# Altium schematic symbol library dongxf_Schlib.SchLib: 300 symbols (part 6 of 6)
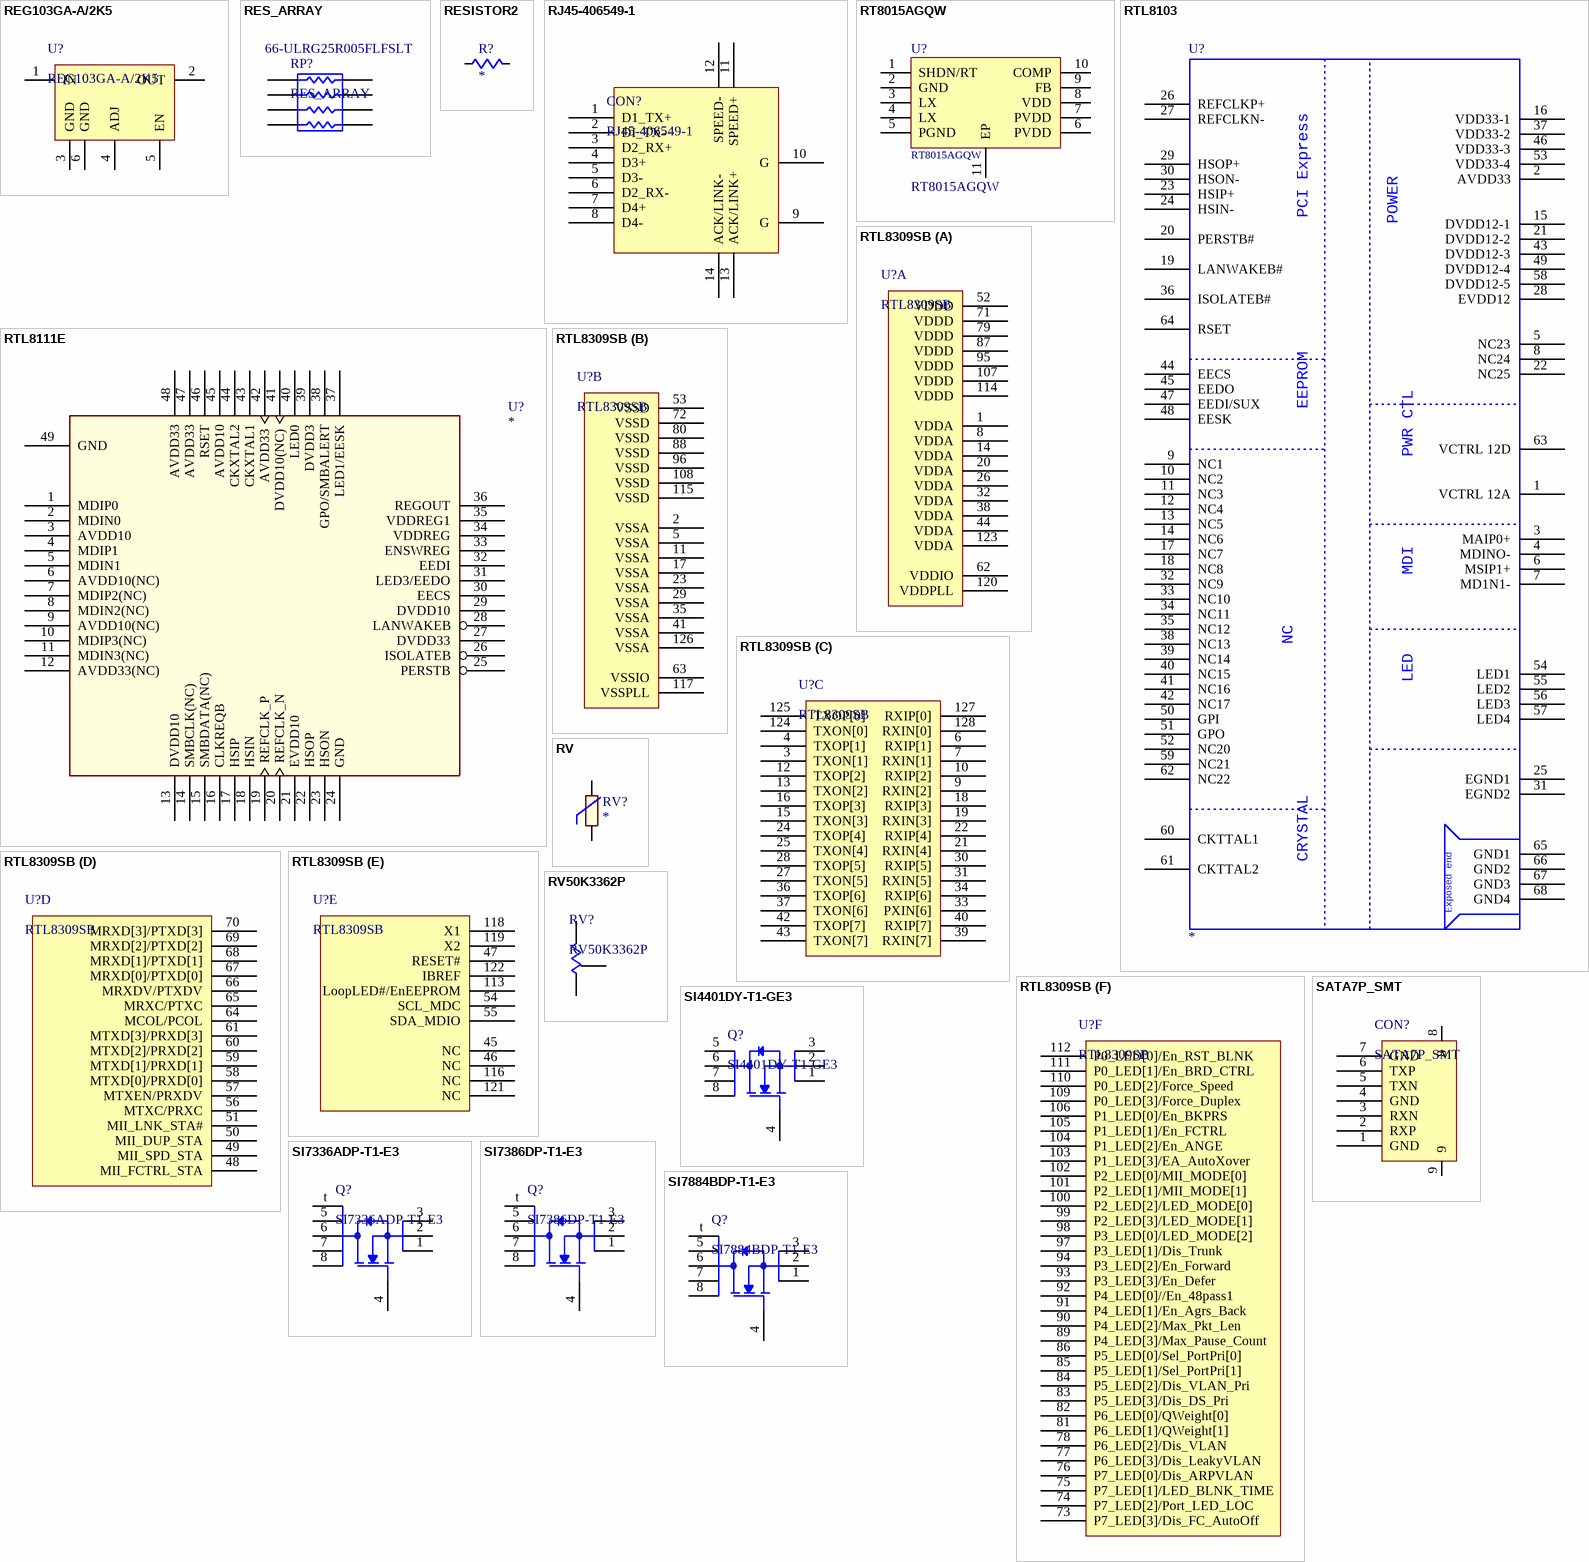
[diagram p19: symbols REG103GA-A/2K5 to SI7884BDP-T1-E3]

## RES_ARRAY
designator RP?  Supplier Part Number 1: 66-ULRG25R005FLFSLT
Manufacturer: IRC / TT electronics; Manufacturer Part Number: ULRG252512R005FLFSLT; Power Rating: 2.5 W; Resistance: 5 mOhms; Tolerance: 1 %; Case Height: 0.6 mm; Case Length: 6.3 mm; Case Width: 3.2 mm; Supplier 1: Mouser; RoHS: RoHS Compliant; Category: Current Sense Resistors - SMD; Stock 1: 3880; Pricing 1: 1=0.743, 25=0.589, 50=0.528, 100=0.504, 500=0.478, 1000=0.466, 2000=0.454, 4000=0.443 (AUD); Operating Temperature Range: - 55 C to + 170 C; Package / Case: 2512 (6432 metric); Packaging: Reel; Series: ULR; Termination Style: SMD/SMT; Type: Metal Element Current Sense Resistor; Brand: IRC / TT electronics; Case Code - in: 2512; Case Code - mm: 6432; Product Category: Current Sense Chip Resistors; Standard Pack Qty: 4000; RoHS - Mouser: Y; Minimum Order Quantity: 1; Reeling: True; ComponentLink1URL: http://irctt.com/file.aspx?product_id=3&file_type=datasheet; ComponentLink1Description: http://irctt.com/file.aspx?product_id=3&file_type=datasheet
pins: 1, 2, 3, 4, 5, 6, 7, 8

## RESISTOR2
designator R?
footprint 0603R-1
footprint CAPC1608X90N
pins: 1, 2

## RJ45-406549-1
designator CON?
Thick Film Resistors - SMD 0 Ohm 5% 1/5W 50V ZERO OHM JUMPER; Manufacturer: Risym; Current Rating: 1.5 A; Gender: Female; Mounting Angle: Right; Number of Positions: 8; Shielding: Shielded; Number of Ports: 1; Performance Category: Cat 5; USOC Codes: RJ45; Supplier 1: taobao.com; Stock 1: 0; Power Rating: -; Temperature Coefficient: -; Tolerance: -; Voltage Rating: -; Brand: Risym; RoHS - Mouser: Y; Reeling: True; ComponentLink1URL: http://detail.tmall.com/item.htm?spm=a230r.1.14.1.2LhdNn&id=14475248606&ad_id=&am_id=&cm_id=140105335569ed55e27b&pm_id=#; My_Description: RJ45-406549-1; Supplier 2: Mouser; Stock 2: 4521; Pricing 2: 1=3.75, 25=3.42, 50=3.13, 100=2.96, 200=2.70, 500=2.40 (AUD); Color: Black; Contact Plating: Gold; Housing Material: Thermoplastic; Termination Style: Through Hole; Contact Material: Phosphor Bronze; Flammability Rating: UL 94 V-0; Standard Pack Qty: 441; ComponentLink2URL: http://www.te.com/catalog/pn/en/2-406549-1?RQPN=2-406549-1; ComponentLink2Description: http://www.te.com/catalog/pn/en/2-406549-1?RQPN=2-406549-1; Supplier Part Number 2: 571-2-406549-1
footprint 406549-1
pins: 1 D1_TX+, 2 DI_TX-, 3 D2_RX+, 4 D3+, 5 D3-, 6 D2_RX-, 7 D4+, 8 D4-, 9 G, 10 G, 11 SPEED+, 12 SPEED-, 13 ACK/LINK+, 14 ACK/LINK-

## RT8015AGQW
designator U?
IC REG BUCK SYNC ADJ 3A 10WDFN; Manufacturer: Richtek USA Inc; Voltage - Output: 0.8 V ~ 5 V; Frequency - Switching: 300kHz ~ 2MHz; Synchronous Rectifier: Yes; PWM Type: Current Mode; Number of Outputs: 1; Voltage - Input: 2.6 V ~ 5.5 V; Output Type: Adjustable; Supplier 1: Digi-Key; Supplier Part Number 1: 1028-1029-1-ND; Packaging: Cut Tape (CT); RoHS: RoHS Compliant; Category: Integrated Circuits (ICs); Mounting Type: Surface Mount; Package / Case: 10-WFDFN Exposed Pad; Current - Output: 3A; Supplier Device Package: 10-WDFN (3x3); Type: Step-Down (Buck); Operating Temperature: -40°C ~ 85°C; My_Descript: RT8015AGQW; Manufacturer Part Number: RT8015AGQW
footprint SON50P300X300X80-11N
pins: 1 SHDN/RT, 2 GND, 3 LX, 4 LX, 5 PGND, 6 PVDD, 7 PVDD, 8 VDD, 9 FB, 10 COMP, 11 EP

## RTL8103
designator U?
footprint QFN64-0_5-9X9X1MM
pins: 1 VCTRL 12A, 2 AVDD33, 3 MAIP0+, 4 MDINO-, 5 NC23, 6 MSIP1+, 7 MD1N1-, 8 NC24, 9 NC1, 10 NC2, 11 NC3, 12 NC4, 13 NC5, 14 NC6, 15 DVDD12-1, 16 VDD33-1, 17 NC7, 18 NC8, 19 LANWAKEB#, 20 PERSTB#, 21 DVDD12-2, 22 NC25, 23 HSIP+, 24 HSIN-, 25 EGND1, 26 REFCLKP+, 27 REFCLKN-, 28 EVDD12, 29 HSOP+, 30 HSON-, 31 EGND2, 32 NC9, 33 NC10, 34 NC11, 35 NC12, 36 ISOLATEB#, 37 VDD33-2, 38 NC13, 39 NC14, 40 NC15, 41 NC16, 42 NC17, 43 DVDD12-3, 44 EECS, 45 EEDO, 46 VDD33-3, 47 EEDI/SUX, 48 EESK, 49 DVDD12-4, 50 GPI, 51 GPO, 52 NC20, 53 VDD33-4, 54 LED1, 55 LED2, 56 LED3, 57 LED4, 58 DVDD12-5, 59 NC21, 60 CKTTAL1, 61 CKTTAL2, 62 NC22, 63 VCTRL 12D, 64 RSET, 65 GND1, 66 GND2, 67 GND3, 68 GND4
text: PCI Express; POWER; EEPROM; PWR CTL; MDI; NC; LED; CRYSTAL; Exposed end

## RTL8111E
designator U?
footprint qfn48p0_4d_tg
pins: 1 MDIP0, 2 MDIN0, 3 AVDD10, 4 MDIP1, 5 MDIN1, 6 AVDD10(NC), 7 MDIP2(NC), 8 MDIN2(NC), 9 AVDD10(NC), 10 MDIP3(NC), 11 MDIN3(NC), 12 AVDD33(NC), 13 DVDD10, 14 SMBCLK(NC), 15 SMBDATA(NC), 16 CLKREQB, 17 HSIP, 18 HSIN, 19 REFCLK_P, 20 REFCLK_N, 21 EVDD10, 22 HSOP, 23 HSON, 24 GND, 25 PERSTB, 26 ISOLATEB, 27 DVDD33, 28 LANWAKEB, 29 DVDD10, 30 EECS, 31 LED3/EEDO, 32 EEDI, 33 ENSWREG, 34 VDDREG, 35 VDDREG1, 36 REGOUT, 37 LED1/EESK (hiz), 38 GPO/SMBALERT, 39 DVDD3, 40 LED0, 41 DVDD10(NC), 42 AVDD33, 43 CKXTAL1, 44 CKXTAL2, 45 AVDD10, 46 RSET, 47 AVDD33, 48 AVDD33, 49 GND

## RTL8309SB
designator U?
My_Descript: RTL8309SB
footprint PQFP128
part A pins: 1 VDDA, 8 VDDA, 14 VDDA, 20 VDDA, 26 VDDA, 32 VDDA, 38 VDDA, 44 VDDA, 52 VDDD, 62 VDDIO, 71 VDDD, 79 VDDD, 87 VDDD, 95 VDDD, 107 VDDD, 114 VDDD, 120 VDDPLL, 123 VDDA
part B pins: 2 VSSA, 5 VSSA, 11 VSSA, 17 VSSA, 23 VSSA, 29 VSSA, 35 VSSA, 41 VSSA, 53 VSSD, 63 VSSIO, 72 VSSD, 80 VSSD, 88 VSSD, 96 VSSD, 108 VSSD, 115 VSSD, 117 VSSPLL, 126 VSSA
part C pins: 3 TXON[1], 4 TXOP[1], 6 RXIP[1], 7 RXIN[1], 9 RXIN[2], 10 RXIP[2], 12 TXOP[2], 13 TXON[2], 15 TXON[3], 16 TXOP[3], 18 RXIP[3], 19 RXIN[3], 21 RXIN[4], 22 RXIP[4], 24 TXOP[4], 25 TXON[4], 27 TXON[5], 28 TXOP[5], 30 RXIP[5], 31 RXIN[5], 33 PXIN[6], 34 RXIP[6], 36 TXOP[6], 37 TXON[6], 39 RXIN[7], 40 RXIP[7], 42 TXOP[7], 43 TXON[7], 124 TXON[0], 125 TXOP[0], 127 RXIP[0], 128 RXIN[0]
part D pins: 48 MII_FCTRL_STA, 49 MII_SPD_STA, 50 MII_DUP_STA, 51 MII_LNK_STA#, 56 MTXC/PRXC, 57 MTXEN/PRXDV, 58 MTXD[0]/PRXD[0], 59 MTXD[1]/PRXD[1], 60 MTXD[2]/PRXD[2], 61 MTXD[3]/PRXD[3], 64 MCOL/PCOL, 65 MRXC/PTXC, 66 MRXDV/PTXDV, 67 MRXD[0]/PTXD[0], 68 MRXD[1]/PTXD[1], 69 MRXD[2]/PTXD[2], 70 MRXD[3]/PTXD[3]
part E pins: 45 NC, 46 NC, 47 RESET#, 54 SCL_MDC, 55 SDA_MDIO, 113 LoopLED#/EnEEPROM, 116 NC, 118 X1, 119 X2, 121 NC, 122 IBREF
part F pins: 73 P7_LED[3]/Dis_FC_AutoOff, 74 P7_LED[2]/Port_LED_LOC, 75 P7_LED[1]/LED_BLNK_TIME, 76 P7_LED[0]/Dis_ARPVLAN, 77 P6_LED[3]/Dis_LeakyVLAN, 78 P6_LED[2]/Dis_VLAN, 81 P6_LED[1]/QWeight[1], 82 P6_LED[0]/QWeight[0], 83 P5_LED[3]/Dis_DS_Pri, 84 P5_LED[2]/Dis_VLAN_Pri, 85 P5_LED[1]/Sel_PortPri[1], 86 P5_LED[0]/Sel_PortPri[0], 89 P4_LED[3]/Max_Pause_Count, 90 P4_LED[2]/Max_Pkt_Len, 91 P4_LED[1]/En_Agrs_Back, 92 P4_LED[0]//En_48pass1, 93 P3_LED[3]/En_Defer, 94 P3_LED[2]/En_Forward, 97 P3_LED[1]/Dis_Trunk, 98 P3_LED[0]/LED_MODE[2], 99 P2_LED[3]/LED_MODE[1], 100 P2_LED[2]/LED_MODE[0], 101 P2_LED[1]/MII_MODE[1], 102 P2_LED[0]/MII_MODE[0], 103 P1_LED[3]/EA_AutoXover, 104 P1_LED[2]/En_ANGE, 105 P1_LED[1]/En_FCTRL, 106 P1_LED[0]/En_BKPRS, 109 P0_LED[3]/Force_Duplex, 110 P0_LED[2]/Force_Speed, 111 P0_LED[1]/En_BRD_CTRL, 112 P0_LED[0]/En_RST_BLNK

## RV
designator RV?
footprint r0603_tg
pins: 1, 2

## RV50K3362P
designator RV?
Trimmer Resistors - Through Hole 1/4"SQ 50KOHMS 10% 0.5WATTS; Manufacturer: Bourns; Manufacturer Part Number: 3362P-1-503LF; Power Rating: 500 mW (1/2 W); Temperature Coefficient: 100 PPM / C; Voltage Rating: 300 V; Adjustment: Top Crossed; Element Type: Cermet; Supplier 1: Mouser; RoHS: RoHS Compliant By Exemption; Category: Trimmer Resistors - Through Hole; Stock 1: 2342; Pricing 1: 1=1.34, 10=1.05, 50=1.01, 100=0.914, 500=0.778, 1000=0.718, 2000=0.622, 5000=0.591, 10000=0.494 (AUD); Operating Temperature Range: - 55 C to + 125 C; Packaging: Tube; Product: Trimmer Resistors - Single Turn; Resistance: 50 kOhms; Series: 3362; Termination Style: Radial; Tolerance: 10 %; Brand: Bourns; Product Category: Single-Turn Trimmer Potentiometers; Product Type: Single Turn; Standard Pack Qty: 50; Taper: Linear; Tradename: Trimpot; RoHS - Mouser: E; Minimum Order Quantity: 1; Reeling: False; ComponentLink1URL: http://www.bourns.com/data/global/pdfs/3362.pdf; ComponentLink1Description: http://www.bourns.com/data/global/pdfs/3362.pdf; My_Descript: RV50K3362P; Supplier Part Number 1: 652-3362P-1-503LF
footprint 3362P_RV
pins: 1, 2, 3

## SATA7P_SMT
designator CON?
footprint SATA7P_SMT
pins: 1 GND, 2 RXP, 3 RXN, 4 GND, 5 TXN, 6 TXP, 7 GND, 8, 9

## SI4401DY-T1-GE3
designator Q?
MOSFET 40V 10.5A 3.0W 15.5mohm @ 10V; Manufacturer: Vishay / Siliconix; Configuration: Single; Transistor Polarity: P-Channel; Id - Continuous Drain Current: 8.7 A; Pd - Power Dissipation: 1.5 W; Rds On - Drain-Source Resistance: 15.5 mOhms; Vds - Drain-Source Breakdown Voltage: - 40 V; Vgs - Gate-Source Breakdown Voltage: 20 V; Product Status: Not Recommended for New Designs; Supplier 1: Mouser; Manufacturer Part Number: SI4401DY-T1-GE3; RoHS: RoHS Compliant By Exemption; Category: MOSFET; Stock 1: 1023; Pricing 1: 1=3.29, 10=2.54, 50=2.43, 100=2.30, 500=1.78, 2500=1.43, 5000=1.40, 7500=1.38, 10000=1.36 (AUD); Package / Case: SO-8; Packaging: Reel; Brand: Vishay / Siliconix; Mounting Style: SMD/SMT; Maximum Operating Temperature: + 150 C; Minimum Operating Temperature: - 55 C; Product Category: P-Channel MOSFETs; Standard Pack Qty: 2500; RoHS - Mouser: E; Minimum Order Quantity: 1; Reeling: True; ComponentLink1URL: http://www.mouser.com/ds/2/427/71226-240099.pdf; ComponentLink1Description: http://www.mouser.com/ds/2/427/71226-240099.pdf; Supplier Part Number 1: 781-SI4401DY-GE3; My_Descript: SI4401DY-T1-GE3
footprint SOIC8
pins: 1, 2, 3, 4, 5, 6, 7, 8

## SI7336ADP-T1-E3
designator Q?
MOSFET 30V 30A 5.4W 3.0mohm @10V; Manufacturer: Vishay / Siliconix; Configuration: Single; Transistor Polarity: N-Channel; Channel Mode: Enhancement; Fall Time: 32 ns; Rds On - Drain-Source Resistance: 3 mOhms; Rise Time: 16 ns; Typical Turn-Off Delay Time: 90 ns; Vgs - Gate-Source Breakdown Voltage: 20 V; Supplier 1: Mouser; Manufacturer Part Number: SI7336ADP-T1-E3; RoHS: RoHS Compliant By Exemption; Category: MOSFET; Stock 1: 1486; Pricing 1: 1=2.21, 10=1.74, 100=1.57, 250=1.36, 500=1.22, 1000=1.13, 3000=0.990, 6000=0.969, 12000=0.933 (AUD); Package / Case: PowerPAK SO-8; Packaging: Reel; Brand: Vishay / Siliconix; Mounting Style: SMD/SMT; Id - Continuous Drain Current: 30 A; Maximum Operating Temperature: + 150 C; Minimum Operating Temperature: - 55 C; Pd - Power Dissipation: 5.4 W; Product Category: N-Channel MOSFETs; Standard Pack Qty: 3000; Vds - Drain-Source Breakdown Voltage: 30 V; RoHS - Mouser: E; Minimum Order Quantity: 1; Reeling: True; ComponentLink1URL: http://www.vishay.com/doc?73152; ComponentLink1Description: http://www.vishay.com/doc?73152; My_Descript: SI7336ADP-T1-E3; Supplier Part Number 1: 781-SI7336ADP-T1-E3
footprint POWERPAK_SO_8
pins: 1, 2, 3, 4, 5, 6, 7, 8, t

## SI7386DP-T1-E3
designator Q?
MOSFET 30 Volt 19 Amp 5W; Manufacturer: Vishay / Siliconix; Configuration: Single; Forward Transconductance - Min: 50 S; Transistor Polarity: N-Channel; Channel Mode: Enhancement; Fall Time: 10 ns; Id - Continuous Drain Current: 19 A; Rds On - Drain-Source Resistance: 7 mOhms; Rise Time: 9 ns; Typical Turn-Off Delay Time: 35 ns; Vds - Drain-Source Breakdown Voltage: 30 V; Vgs - Gate-Source Breakdown Voltage: 20 V; Supplier 1: Mouser; Manufacturer Part Number: SI7386DP-T1-E3; RoHS: RoHS Compliant By Exemption; Category: MOSFET; Stock 1: 12201; Pricing 1: 1=1.78, 10=1.40, 100=1.26, 250=1.09, 500=0.986, 1000=0.770, 3000=0.770 (AUD); Package / Case: PowerPAK SO-8; Packaging: Reel; Brand: Vishay / Siliconix; Mounting Style: SMD/SMT; Maximum Operating Temperature: + 150 C; Minimum Operating Temperature: - 55 C; Pd - Power Dissipation: 5 W; Product Category: N-Channel MOSFETs; Standard Pack Qty: 3000; RoHS - Mouser: E; Minimum Order Quantity: 1; Reeling: True; ComponentLink1URL: http://www.vishay.com/doc?73108; ComponentLink1Description: http://www.vishay.com/doc?73108; Supplier Part Number 1: 781-SI7386DP-T1-E3; My_Descript: SI7386DP-T1-E3
footprint POWERPAK_SO_8
pins: 1, 2, 3, 4, 5, 6, 7, 8, t

## SI7884BDP-T1-E3
designator Q?
MOSFET 40V 58A 46W; Manufacturer: Vishay / Siliconix; Configuration: Single; Transistor Polarity: N-Channel; Channel Mode: Enhancement; Fall Time: 11 ns; Id - Continuous Drain Current: 18.5 A; Pd - Power Dissipation: 4.6 W; Rds On - Drain-Source Resistance: 7.5 mOhms; Rise Time: 14 ns; Typical Turn-Off Delay Time: 38 ns; Vgs - Gate-Source Breakdown Voltage: 20 V; Product Status: Obsolete; Supplier 1: Mouser; Manufacturer Part Number: SI7884BDP-T1-E3; RoHS: RoHS Compliant; Category: MOSFET; Stock 1: 0; Package / Case: PowerPAK SO-8; Packaging: Reel; Brand: Vishay / Siliconix; Mounting Style: SMD/SMT; Maximum Operating Temperature: + 150 C; Minimum Operating Temperature: - 55 C; Product Category: N-Channel MOSFETs; Standard Pack Qty: 3000; Vds - Drain-Source Breakdown Voltage: 40 V; RoHS - Mouser: E; Minimum Order Quantity: 1; Reeling: True; ComponentLink1URL: http://www.vishay.com/doc?68395; ComponentLink1Description: http://www.vishay.com/doc?68395; My_Descript: SI7884BDP-T1-E3; Supplier Part Number 1: 781-SI7884BDP-E3
footprint POWERPAK_SO_8
pins: 1, 2, 3, 4, 5, 6, 7, 8, t

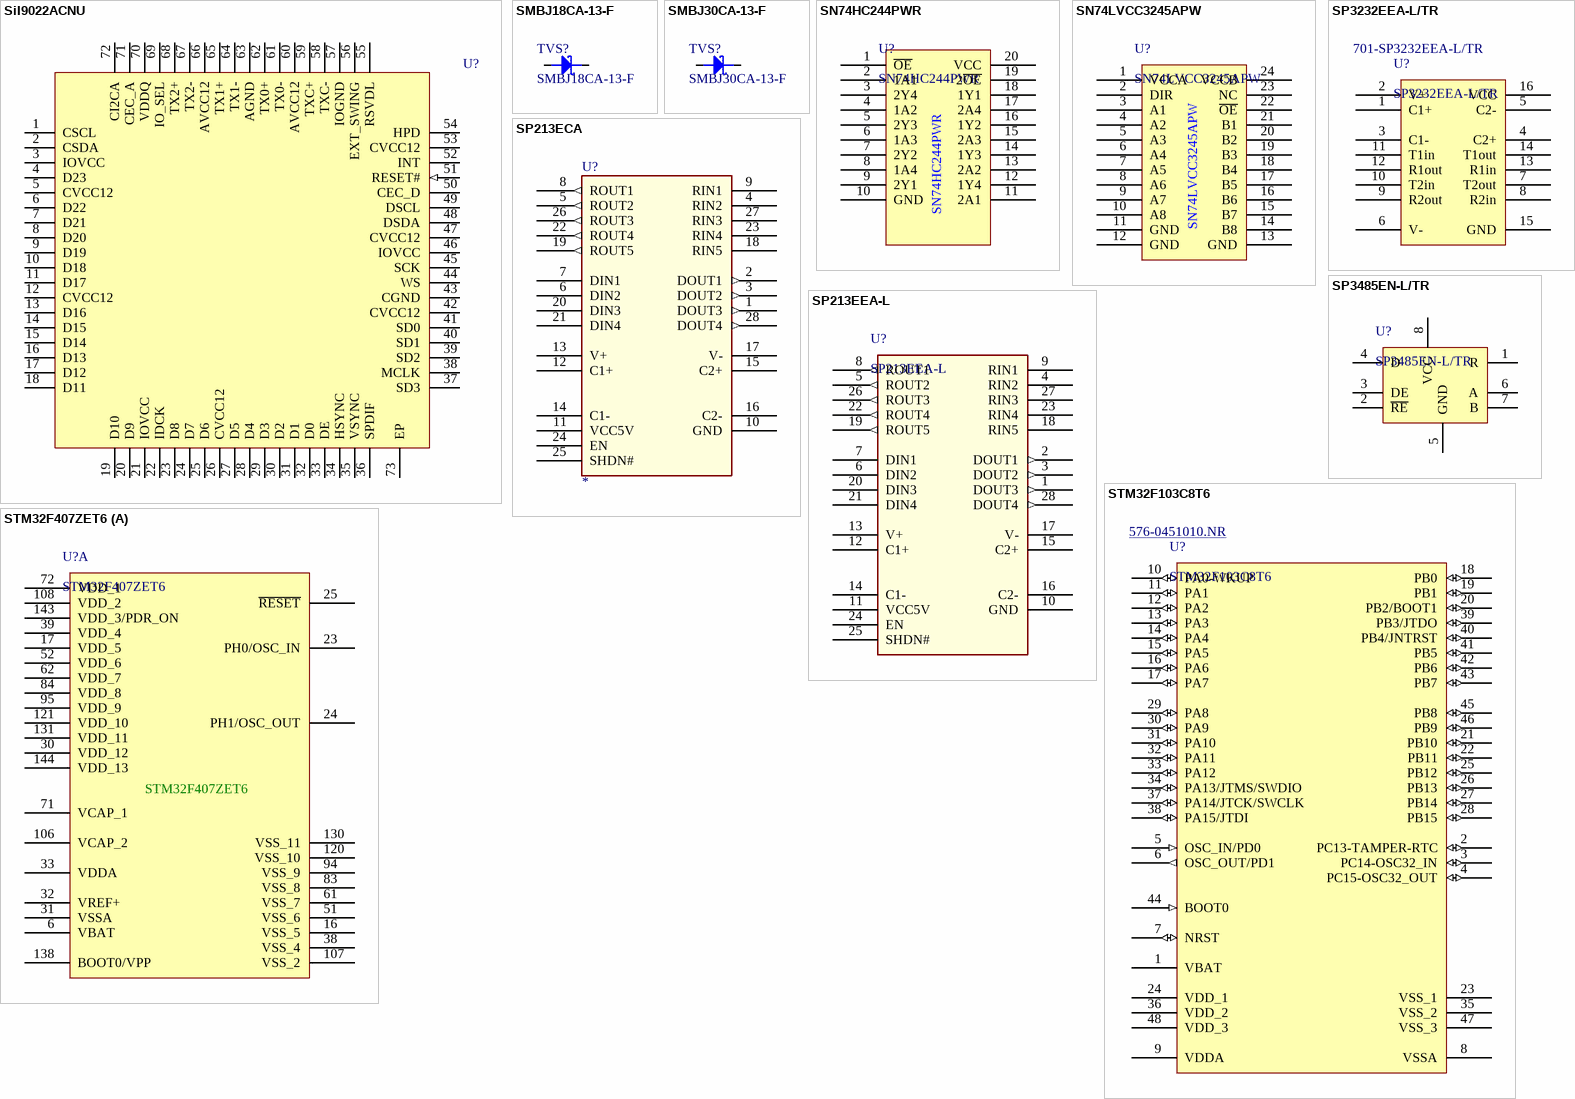
[diagram p11: symbols SiI9022ACNU to STM32F407ZET6]

## SiI9022ACNU
designator U?  (value not drawn)
HDMI Transmitter chip; Manufacturer: Silicon Image; Manufacturer Part Number: Sil9022ACNU; Taobao Price: 7.2; Supplier 1: www.taobao.com; Supplier Part Number 1: SiI9022ACNU; Package / Case: QFN72; Mounting Style: SMD/SMT; RoHS: RoHS Compliant; Category: Video ICs; RoHS - Mouser: Y; Taobao Link: http://item.taobao.com/item.htm?spm=a1z1n.2196277.0.8.7a2vin&scm=1007.79.1.0&id=15120531599&pvid=9e9aa693-5abe-4d52-8d1c-979310e2e310&ad_id=&am_id=&cm_id=&pm_id=; My_Descript: SiI9022ACNU
footprint QFN72_PAD
pins: 1 CSCL, 2 CSDA, 3 IOVCC, 4 D23, 5 CVCC12, 6 D22, 7 D21, 8 D20, 9 D19, 10 D18, 11 D17, 12 CVCC12, 13 D16, 14 D15, 15 D14, 16 D13, 17 D12, 18 D11, 19 D10, 20 D9, 21 IOVCC, 22 IDCK, 23 D8, 24 D7, 25 D6, 26 CVCC12, 27 D5, 28 D4, 29 D3, 30 D2, 31 D1, 32 D0, 33 DE, 34 HSYNC, 35 VSYNC, 36 SPDIF, 37 SD3, 38 MCLK, 39 SD2, 40 SD1, 41 SD0, 42 CVCC12, 43 CGND, 44 WS, 45 SCK, 46 IOVCC, 47 CVCC12, 48 DSDA, 49 DSCL, 50 CEC_D, 51 RESET# (in), 52 INT, 53 CVCC12, 54 HPD, 55 RSVDL, 56 EXT_SWING, 57 IOGND, 58 TXC-, 59 TXC+, 60 AVCC12, 61 TX0-, 62 TX0+, 63 AGND, 64 TX1-, 65 TX1+, 66 AVCC12, 67 TX2-, 68 TX2+, 69 IO_SEL, 70 VDDQ, 71 CEC_A, 72 CI2CA, 73 EP

## SMBJ18CA-13-F
designator TVS?
TVS Diodes - Transient Voltage Suppressors 600W 18.0V; Manufacturer: Diodes Incorporated; Breakdown Voltage: 23.3 V; Clamping Voltage: 29.2 V; Operating Voltage: 18 V; Peak Surge Current: 20.5 A; Polarity: Bidirectional; Supplier 1: Mouser; Manufacturer Part Number: SMBJ18CA-13-F; RoHS: RoHS Compliant; Category: TVS Diodes - Transient Voltage Suppressors; Stock 1: 2205; Pricing 1: 1=0.689, 10=0.510, 100=0.321, 1000=0.248, 3000=0.205, 9000=0.192, 24000=0.181, 45000=0.177 (AUD); Dimensions: 3.9 mm W x 4.57 mm L x 2.62 mm H; Package / Case: SMB; Packaging: Reel; Series: SMBJ; Termination Style: SMD/SMT; Brand: Diodes Incorporated; Mounting Style: SMD/SMT; Maximum Operating Temperature: + 150 C; Minimum Operating Temperature: - 55 C; Peak Pulse Power Dissipation: 600 W; Product Category: TVS - Zener Single; Standard Pack Qty: 3000; RoHS - Mouser: Y; Minimum Order Quantity: 1; Reeling: True; ComponentLink1URL: http://www.mouser.com/ds/2/115/ds19002-13254.pdf; ComponentLink1Description: http://www.mouser.com/ds/2/115/ds19002-13254.pdf; Supplier Part Number 1: 621-SMBJ18CA-13-F; My_Descript: SMBJ18CA-13-F
footprint SMB
pins: A, C

## SMBJ30CA-13-F
designator TVS?
Manufacturer: Diodes Incorporated; Breakdown Voltage: 33.3 V; Clamping Voltage: 48.4 V; Operating Voltage: 30 V; Peak Surge Current: 100 A; Peak Pulse Power Dissipation: 600 W; Polarity: Bidirectional; My_Descript: SMBJ30CA-13-F; Supplier 1: Mouser; Manufacturer Part Number: SMBJ30CA-13-F; RoHS: RoHS Compliant; Category: TVS Diodes - Transient Voltage Suppressors; Stock 1: 3420; Pricing 1: 1=0.689, 10=0.510, 100=0.321, 1000=0.248, 3000=0.205, 9000=0.192, 24000=0.181, 45000=0.177 (AUD); Dimensions: 3.94(Max) mm W x 4.57 mm L; Package / Case: SMB; Packaging: Reel; Series: SMBJ; Termination Style: SMD/SMT; Brand: Diodes Incorporated; Maximum Operating Temperature: + 150 C; Minimum Operating Temperature: - 55 C; Product Category: TVS - Zener Single; Standard Pack Qty: 3000; RoHS - Mouser: Y; Minimum Order Quantity: 1; Reeling: True; ComponentLink1URL: http://www.mouser.com/ds/2/115/ds19002-13254.pdf; ComponentLink1Description: http://www.mouser.com/ds/2/115/ds19002-13254.pdf; Supplier Part Number 1: 621-SMBJ30CA-13-F
footprint SMB
pins: A, C

## SN74HC244PWR
designator U?
Buffers & Line Drivers Tri-State Octal; Manufacturer: Texas Instruments; Output Type: 3-State; Logic Family: HC; Logic Type: CMOS; Number of Input Lines: 8; High Level Output Current: - 7.8 mA; Low Level Output Current: 7.8 mA; Polarity: Non-Inverting; Propagation Delay Time: 165 ns at 2 V, 33 ns at 4.5 V, 28 ns at 6 V; Supply Voltage - Max: 6 V; Supply Voltage - Min: 2 V; Supplier 1: Mouser; Manufacturer Part Number: SN74HC244PWR; RoHS: RoHS Compliant; Category: Buffers & Line Drivers; Stock 1: 8896; Pricing 1: 1=0.675, 10=0.512, 100=0.270, 1000=0.242, 2000=0.205, 10000=0.192, 24000=0.181, 50000=0.177 (AUD); Package / Case: TSSOP-20; Packaging: Reel; Series: SN74HC244; Brand: Texas Instruments; Mounting Style: SMD/SMT; Number of Output Lines: 8; Maximum Operating Temperature: + 85 C; Minimum Operating Temperature: - 40 C; Number of Channels per Chip: 8; Product Category: Logic - Buffers, Drivers, and Transceivers; Standard Pack Qty: 2000; RoHS - Mouser: Y; Minimum Order Quantity: 1; Reeling: True; ComponentLink1URL: http://www.mouser.com/ds/2/405/scls130d-345725.pdf; ComponentLink1Description: http://www.mouser.com/ds/2/405/scls130d-345725.pdf; Supplier Part Number 1: 595-SN74HC244PWR; My_Descript: SN74HC244PWR
footprint TSSOP20
pins: 1 ~{OE}, 2 1A1, 3 2Y4, 4 1A2, 5 2Y3, 6 1A3, 7 2Y2, 8 1A4, 9 2Y1, 10 GND, 11 2A1, 12 1Y4, 13 2A2, 14 1Y3, 15 2A3, 16 1Y2, 17 2A4, 18 1Y1, 19 2~{OE}, 20 VCC

## SN74LVCC3245APW
designator U?
Translation - Voltage Levels Mil Enh Octal Bus Xcvr; Manufacturer: Texas Instruments; Output Type: 3-State; Propagation Delay Time: 11.2 ns; Supply Voltage - Max: 3.6 V, 5.5 V; Supply Voltage - Min: 2.3 V, 3 V; My_Descript: SN74LVCC3245APW; Supplier 1: Mouser; Manufacturer Part Number: SN74LVCC3245APW; RoHS: RoHS Compliant; Category: Translation - Voltage Levels; Stock 1: 1227; Pricing 1: 1=1.97, 10=1.58, 100=1.22, 500=0.942, 1000=0.851, 2000=0.755, 10000=0.726 (AUD); Package / Case: TSSOP-24; Packaging: Tube; Series: SN74LVCC3245A; Brand: Texas Instruments; Mounting Style: SMD/SMT; Maximum Operating Temperature: + 85 C; Minimum Operating Temperature: - 40 C; Product Category: Logic - Voltage Level Translation; Standard Pack Qty: 60; RoHS - Mouser: Y; Minimum Order Quantity: 1; Reeling: False; ComponentLink1URL: http://www.mouser.com/ds/2/405/scas585o-110559.pdf; ComponentLink1Description: http://www.mouser.com/ds/2/405/scas585o-110559.pdf; Supplier Part Number 1: 595-SN74LVCC3245APW
footprint TSSOP24
pins: 1 VCCA, 2 DIR, 3 A1, 4 A2, 5 A3, 6 A4, 7 A5, 8 A6, 9 A7, 10 A8, 11 GND, 12 GND, 13 GND, 14 B8, 15 B7, 16 B6, 17 B5, 18 B4, 19 B3, 20 B2, 21 B1, 22 ~{OE}, 23 NC, 24 VCCB

## SP213ECA
designator U?
footprint SSOP28P
pins: 1 DOUT3 (out), 2 DOUT1 (out), 3 DOUT2 (out), 4 RIN2, 5 ROUT2 (out), 6 DIN2, 7 DIN1, 8 ROUT1 (out), 9 RIN1, 10 GND, 11 VCC5V, 12 C1+, 13 V+, 14 C1-, 15 C2+, 16 C2-, 17 V-, 18 RIN5, 19 ROUT5 (out), 20 DIN3, 21 DIN4, 22 ROUT4 (out), 23 RIN4, 24 EN, 25 SHDN#, 26 ROUT3 (out), 27 RIN3, 28 DOUT4 (out)

## SP213EEA-L
designator U?
RS-232 Interface IC 5V 4-DRVR/5-RCVR RS-232 -40-85C; Manufacturer: Exar; Data Rate: 230 kb/s; Function: Transceiver; Propagation Delay Time ns: 1.5 us; Supply Current: 3 mA; Number of I/Os: 18; Shutdown: Yes; Maximum Power Dissipation: 900 mW; Number of Drivers: 4; Number of Receivers: 5; Supplier 1: Mouser; Manufacturer Part Number: SP213EEA-L; RoHS: RoHS Compliant; Category: RS-232 Interface IC; Stock 1: 172; Pricing 1: 1=2.69, 10=2.19, 100=1.76, 500=1.53, 1000=1.27, 2500=1.19, 5000=1.14, 10000=1.10 (AUD); Package / Case: SSOP-28; Brand: Exar; Mounting Style: SMD/SMT; Maximum Operating Temperature: + 85 C; Minimum Operating Temperature: - 40 C; Operating Supply Voltage: 5 V; Product Category: Transceivers; Standard Pack Qty: 46; RoHS - Mouser: Y; Minimum Order Quantity: 1; Reeling: False; ComponentLink1URL: http://www.mouser.com/ds/2/146/SP207E_SP213E_101_101512-27723.pdf; ComponentLink1Description: http://www.mouser.com/ds/2/146/SP207E_SP213E_101_101512-27723.pdf; Supplier Part Number 1: 701-SP213EEA-L; My_Descript: SP213EEA-L
footprint SSOP28P
pins: 1 DOUT3 (out), 2 DOUT1 (out), 3 DOUT2 (out), 4 RIN2, 5 ROUT2 (out), 6 DIN2, 7 DIN1, 8 ROUT1 (out), 9 RIN1, 10 GND, 11 VCC5V, 12 C1+, 13 V+, 14 C1-, 15 C2+, 16 C2-, 17 V-, 18 RIN5, 19 ROUT5 (out), 20 DIN3, 21 DIN4, 22 ROUT4 (out), 23 RIN4, 24 EN, 25 SHDN#, 26 ROUT3 (out), 27 RIN3, 28 DOUT4 (out)

## SP3232EEA-L/TR
designator U?  Supplier Part Number 1: 701-SP3232EEA-L/TR
Manufacturer: Exar; Data Rate: 120 kb/s; Function: Transceiver; Input Voltage: 3 V to 5.5 V; Propagation Delay Time ns: 1  us; Supply Current: 0.3 mA; Number of I/Os: 4; Shutdown: Yes; Maximum Power Dissipation: 775 mW; Number of Drivers: 2 Driver; Number of Receivers: 2 Receiver; Supplier 1: Mouser; Manufacturer Part Number: SP3232EEA-L/TR; RoHS: RoHS Compliant; Category: RS-232 Interface IC; Stock 1: 1598; Pricing 1: 1=2.00, 10=1.62, 100=1.25, 500=1.08, 1000=0.872, 1500=0.774, 9000=0.744 (AUD); Operating Temperature Range: - 40 C to + 85 C; Package / Case: SSOP-16; Packaging: Reel; Brand: Exar; Mounting Style: SMD/SMT; Maximum Operating Temperature: + 85 C; Minimum Operating Temperature: - 40 C; Operating Supply Voltage: 3 V to 5.5 V; Product Category: Transceivers; Standard Pack Qty: 1500; RoHS - Mouser: Y; Minimum Order Quantity: 1; Reeling: True; ComponentLink1URL: http://www.exar.com/Common/Content/Document.ashx?id=619; ComponentLink1Description: http://www.exar.com/Common/Content/Document.ashx?id=619; My_Descript: SP3232EEA-L/TR
footprint TSSOP16
pins: 1 C1+, 2 V+, 3 C1-, 4 C2+, 5 C2-, 6 V-, 7 T2out, 8 R2in, 9 R2out, 10 T2in, 11 T1in, 12 R1out, 13 R1in, 14 T1out, 15 GND, 16 VCC

## SP3485EN-L/TR
designator U?
Manufacturer: Exar; Data Rate: 10 Mb/s; Function: Transceiver; Supply Current: 800 uA; Shutdown: No; Duplex: Half Duplex; Number of Drivers: 1 Driver; Number of Receivers: 1 Receiver; Operating Supply Voltage: 3.3 V; Supplier 1: Mouser; Supplier 2: Mouser; Manufacturer Part Number: SP3485EN-L/TR; RoHS: RoHS Compliant; Category: RS-485 Interface IC; Stock 2: 0; Pricing 2: 1=3.47, 10=2.84, 100=2.27, 500=1.98, 1000=1.63, 2500=1.53, 5000=1.47, 10000=1.42 (AUD); Operating Temperature Range: - 40 C to + 85 C; Package / Case: SOIC-8 Narrow; Packaging: Reel; Series: SP3485; Brand: Exar; Mounting Style: SMD/SMT; Maximum Operating Temperature: + 85 C; Minimum Operating Temperature: - 40 C; Product Category: Transceivers; Standard Pack Qty: 2500; RoHS - Mouser: Y; Minimum Order Quantity: 1; Reeling: True; ComponentLink1URL: http://www.mouser.com/ds/2/146/SP3485_100_061912-4499.pdf; ComponentLink1Description: http://www.mouser.com/ds/2/146/SP3485_100_061912-4499.pdf; Supplier Part Number 1: 781-SI7386DP-T1-E3; Supplier Part Number 2: 701-SP3485EN-L/TR; My_Descript: SP3485EN-L/TR
footprint SOIC8
pins: 1 R, 2 ~{RE}, 3 DE, 4 D, 5 GND, 6 A, 7 B, 8 VCC

## STM32F103C8T6
designator U?  Supplier Part Number 1: 576-0451010.NR
Manufacturer: Littelfuse; Manufacturer Part Number: 0451010.NR; Current Rating: 10 A; Voltage Rating AC: 125 V; Fuse Size / Group: NANO; Fuse Type: Fast Blow; Interrupt Rating: 35 Amps at 125 VoltsAC / 300 Amps at 32 VoltsDC / 50 Amps at 125 VoltsDC; Case Height: 2.69 mm; Case Length: 6.1 mm; Supplier 1: Mouser; RoHS: RoHS Compliant; Category: Surface Mount Fuses; Stock 1: 0; Pricing 1: 3070=1.23, 5000=1.10, 10000=1.00 (AUD); Dimensions: 6.1 mm L x 2.69 mm W; Packaging: Reel; Product: Surface Mount Fuses; Series: 451; Type: Nano Surface Mount Very Fast Acting Fuse; Voltage Rating DC: 125 V; Brand: Littelfuse; Case Width: 2.69 mm; Product Category: Fuses - Surface Mount; Product Type: Surface Mount Fuse; Standard Pack Qty: 5000; RoHS - Mouser: N; Minimum Order Quantity: 3070; Reeling: True; ComponentLink1URL: http://www.mouser.com/ds/2/240/Littelfuse_Fuse_451_453-66973.pdf; ComponentLink1Description: http://www.mouser.com/ds/2/240/Littelfuse_Fuse_451_453-66973.pdf
pins: 1 VBAT (power), 2 PC13-TAMPER-RTC (io), 3 PC14-OSC32_IN (io), 4 PC15-OSC32_OUT (io), 5 OSC_IN/PD0 (in), 6 OSC_OUT/PD1 (out), 7 NRST (io), 8 VSSA (power), 9 VDDA (power), 10 PA0-WKUP (io), 11 PA1 (io), 12 PA2 (io), 13 PA3 (io), 14 PA4 (io), 15 PA5 (io), 16 PA6 (io), 17 PA7 (io), 18 PB0 (io), 19 PB1 (io), 20 PB2/BOOT1 (io), 21 PB10 (io), 22 PB11 (io), 23 VSS_1 (power), 24 VDD_1 (power), 25 PB12 (io), 26 PB13 (io), 27 PB14 (io), 28 PB15 (io), 29 PA8 (io), 30 PA9 (io), 31 PA10 (io), 32 PA11 (io), 33 PA12 (io), 34 PA13/JTMS/SWDIO (io), 35 VSS_2 (power), 36 VDD_2 (power), 37 PA14/JTCK/SWCLK (io), 38 PA15/JTDI (io), 39 PB3/JTDO (io), 40 PB4/JNTRST (io), 41 PB5 (io), 42 PB6 (io), 43 PB7 (io), 44 BOOT0 (in), 45 PB8 (io), 46 PB9 (io), 47 VSS_3 (power), 48 VDD_3 (power)

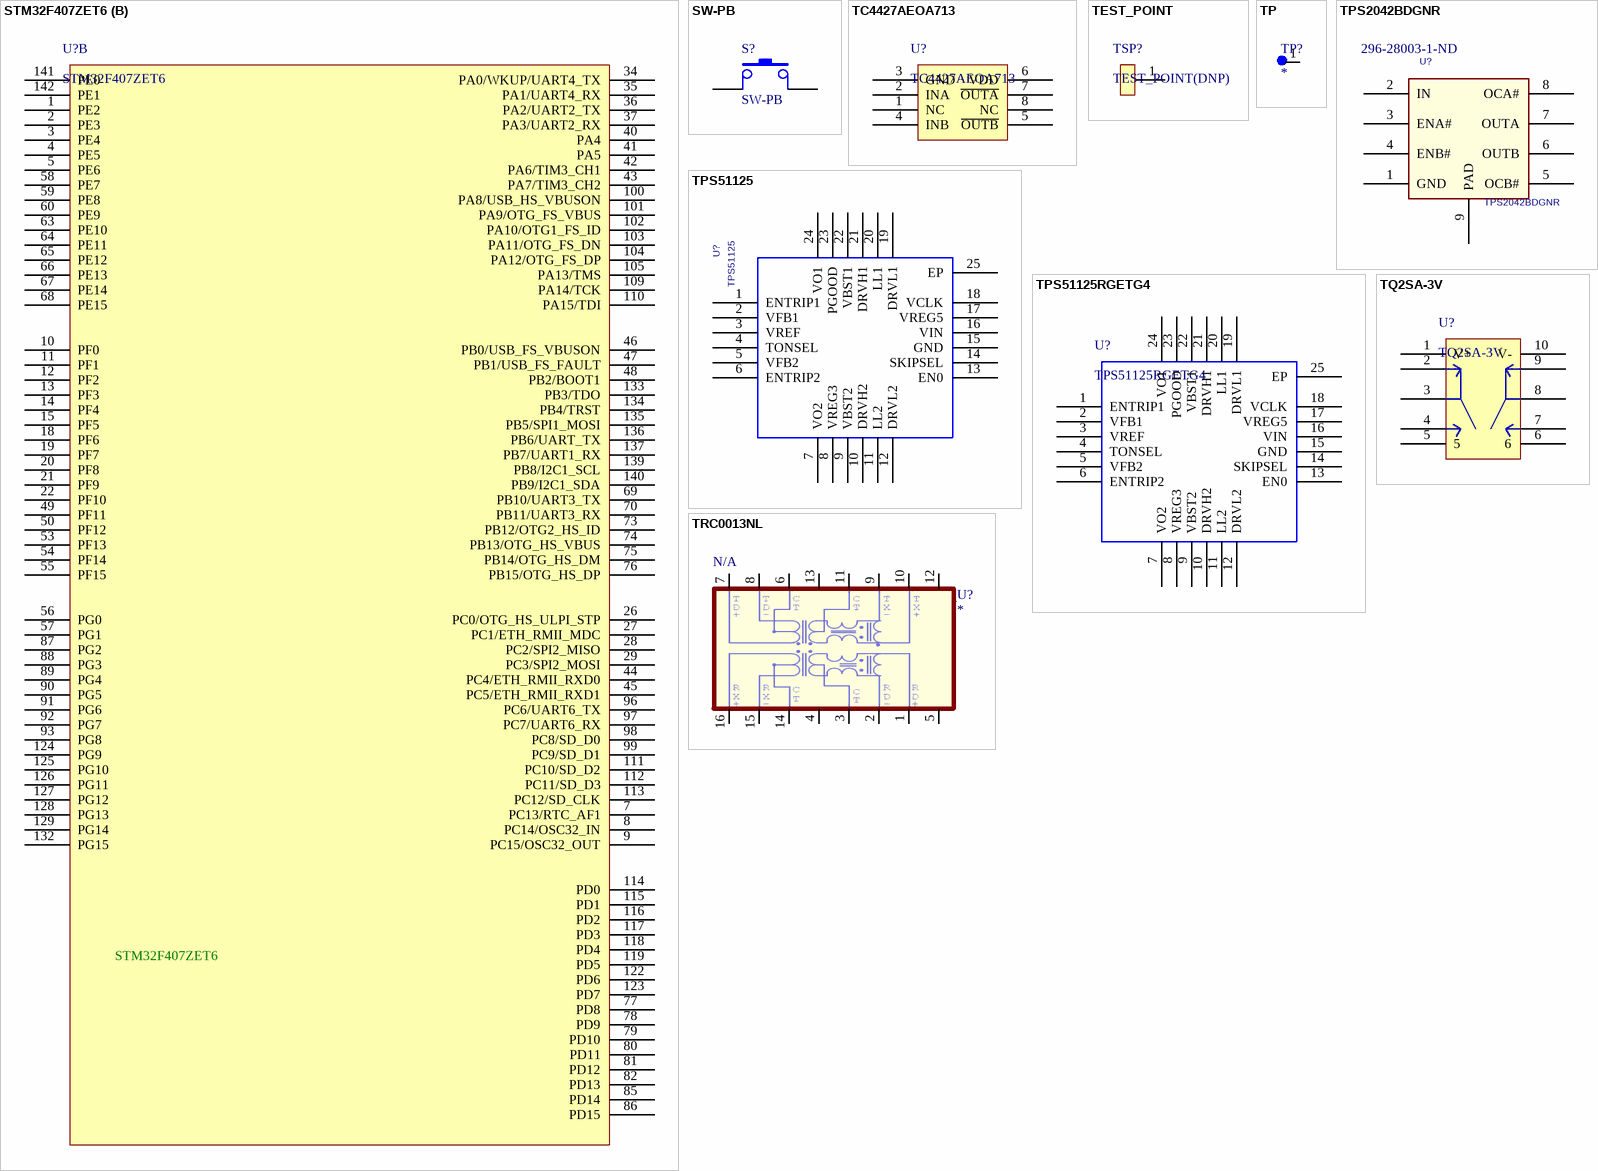
[diagram p12: symbols STM32F407ZET6 to TRC0013NL]

## STM32F407ZET6
designator U?
ARM Microcontrollers - MCU ARM M4 512 FLASH 168 Mhz 192kB SRAM; Manufacturer: STMicroelectronics; A/D Bit Size: 12 bit; A/D Channels Available: 2; Interface Type: CAN, I2C, I2S, SPI, UART; Number of I/Os: 114 I/O; Program Memory Size: 512 kB; Core: ARM Cortex M4; Data Bus Width: 32 bit; Maximum Clock Frequency: 168 MHz; Number of Timers: 10 Timer; On-Chip DAC: Without DAC; Operating Supply Voltage: 1.8 V to 3.6 V; Processor Series: ARM Cortex; Supplier 1: Mouser; Manufacturer Part Number: STM32F407ZET6; RoHS: RoHS Compliant; Category: ARM Microcontrollers - MCU; Stock 1: 202; Pricing 1: 1=18.60, 10=16.93, 25=15.65, 50=14.65, 100=14.39, 250=13.12, 500=12.27, 1000=11.26 (AUD); Package / Case: LQFP-144; Packaging: Tray; Program Memory Type: Flash; Series: STM32F407ZE; Brand: STMicroelectronics; Data RAM Size: 192 kB; Data RAM Type: SRAM; Mounting Style: SMD/SMT; Maximum Operating Temperature: + 85 C; Minimum Operating Temperature: - 40 C; Product Category: ARM Based Microcontrollers; Standard Pack Qty: 60; RoHS - Mouser: Y; Minimum Order Quantity: 1; Reeling: False; ComponentLink1URL: http://www.st.com/web/en/resource/technical/document/datasheet/DM00037051.pdf; ComponentLink1Description: http://www.st.com/web/en/resource/technical/document/datasheet/DM00037051.pdf; Supplier Part Number 1: 511-STM32F407ZET6; My_Descript: STM32F407ZET6
footprint LQFP144
part A pins: 6 VBAT, 16 VSS_5, 17 VDD_5, 23 PH0/OSC_IN, 24 PH1/OSC_OUT, 25 ~{RESET}, 30 VDD_12, 31 VSSA, 32 VREF+, 33 VDDA, 38 VSS_4, 39 VDD_4, 51 VSS_6, 52 VDD_6, 61 VSS_7, 62 VDD_7, 71 VCAP_1, 72 VDD_1, 83 VSS_8, 84 VDD_8, 94 VSS_9, 95 VDD_9, 106 VCAP_2, 107 VSS_2, 108 VDD_2, 120 VSS_10, 121 VDD_10, 130 VSS_11, 131 VDD_11, 138 BOOT0/VPP, 143 VDD_3/PDR_ON, 144 VDD_13
part B pins: 1 PE2, 2 PE3, 3 PE4, 4 PE5, 5 PE6, 7 PC13/RTC_AF1, 8 PC14/OSC32_IN, 9 PC15/OSC32_OUT, 10 PF0, 11 PF1, 12 PF2, 13 PF3, 14 PF4, 15 PF5, 18 PF6, 19 PF7, 20 PF8, 21 PF9, 22 PF10, 26 PC0/OTG_HS_ULPI_STP, 27 PC1/ETH_RMII_MDC, 28 PC2/SPI2_MISO, 29 PC3/SPI2_MOSI, 34 PA0/WKUP/UART4_TX, 35 PA1/UART4_RX, 36 PA2/UART2_TX, 37 PA3/UART2_RX, 40 PA4, 41 PA5, 42 PA6/TIM3_CH1, 43 PA7/TIM3_CH2, 44 PC4/ETH_RMII_RXD0, 45 PC5/ETH_RMII_RXD1, 46 PB0/USB_FS_VBUSON, 47 PB1/USB_FS_FAULT, 48 PB2/BOOT1, 49 PF11, 50 PF12, 53 PF13, 54 PF14, 55 PF15, 56 PG0, 57 PG1, 58 PE7, 59 PE8, 60 PE9, 63 PE10, 64 PE11, 65 PE12, 66 PE13, 67 PE14, 68 PE15, 69 PB10/UART3_TX, 70 PB11/UART3_RX, 73 PB12/OTG2_HS_ID, 74 PB13/OTG_HS_VBUS, 75 PB14/OTG_HS_DM, 76 PB15/OTG_HS_DP, 77 PD8, 78 PD9, 79 PD10, 80 PD11, 81 PD12, 82 PD13, 85 PD14, 86 PD15, 87 PG2, 88 PG3, 89 PG4, 90 PG5, 91 PG6, 92 PG7, 93 PG8, 96 PC6/UART6_TX, 97 PC7/UART6_RX, 98 PC8/SD_D0, 99 PC9/SD_D1, 100 PA8/USB_HS_VBUSON, 101 PA9/OTG_FS_VBUS, 102 PA10/OTG1_FS_ID, 103 PA11/OTG_FS_DN, 104 PA12/OTG_FS_DP, 105 PA13/TMS, 109 PA14/TCK, 110 PA15/TDI, 111 PC10/SD_D2, 112 PC11/SD_D3, 113 PC12/SD_CLK, 114 PD0, 115 PD1, 116 PD2, 117 PD3, 118 PD4, 119 PD5, 122 PD6, 123 PD7, 124 PG9, 125 PG10, 126 PG11, 127 PG12, 128 PG13, 129 PG14, 132 PG15, 133 PB3/TDO, 134 PB4/TRST, 135 PB5/SPI1_MOSI, 136 PB6/UART_TX, 137 PB7/UART1_RX, 139 PB8/I2C1_SCL, 140 PB9/I2C1_SDA, 141 PE0, 142 PE1

## SW-PB
designator S?
footprint TACTSW
pins: 1, 2

## TC4427AEOA713
designator U?
Gate Drivers 1.5A Dual MOSFET Dr NonInver Etemp MSOP8; Manufacturer: Microchip Technology; Configuration: Non-Inverting; Number of Outputs: 2; Supply Current: 1 mA; Fall Time: 25 ns; Maximum Power Dissipation: 470 mW; Number of Drivers: 2 Driver; Supply Voltage - Max: 18 V; Supply Voltage - Min: 4.5 V; My_Descript: TC4427AEOA713; Supplier 1: Mouser; Manufacturer Part Number: TC4427AEOA713; RoHS: RoHS Compliant; Category: Gate Drivers; Stock 1: 1825; Pricing 1: 1=1.71, 10=1.43, 25=1.19, 100=1.08, 250=0.933, 500=0.801, 1000=0.697, 3300=0.697 (AUD); Output Current: 1.5 A; Package / Case: SOIC-8; Packaging: Reel; Product: MOSFET Gate Drivers; Type: Low Side; Brand: Microchip Technology; Mounting Style: SMD/SMT; Maximum Operating Temperature: + 85 C; Minimum Operating Temperature: - 40 C; Product Category: Drivers; Rise Time: 25 ns; Standard Pack Qty: 3300; RoHS - Mouser: Y; Minimum Order Quantity: 1; Reeling: True; ComponentLink1URL: http://ww1.microchip.com/downloads/en/DeviceDoc/21423F.pdf; ComponentLink1Description: http://ww1.microchip.com/downloads/en/DeviceDoc/21423F.pdf; Supplier Part Number 1: 579-TC4427AEOA713
footprint SOIC8
pins: 1 NC, 2 INA, 3 GND, 4 INB, 5 ~{OUTB}, 6 VDD, 7 ~{OUTA}, 8 NC

## TEST_POINT
designator TSP?, comment TEST_POINT(DNP)
My_Descript: TEST_POINT(DNP)
footprint TEST_1_0CIR
pins: 1

## TP
designator TP?
pins: 1 TP

## TPS2042BDGNR
designator U?  Supplier Part Number 1: 296-28003-1-ND
Manufacturer: Texas Instruments; Switch Type: General Purpose; Number of Outputs: 2; Ratio - Input:Output: 1:2; Output Configuration: High Side; Output Type: N-Channel; Interface: On/Off; Voltage - Load: 2.7 V ~ 5.5 V; Voltage - Supply (Vcc/Vdd): Not Required; Current - Output (Max): 500mA; Rds (On): 70 mOhm; Input Type: Non-Inverting; Fault Protection: Current Limiting (Fixed), Over Temperature, UVLO; Revision: A; Supplier 1: Digi-Key; Manufacturer Part Number: TPS2042BDGNR; RoHS: RoHS Compliant; Category: Integrated Circuits (ICs); Stock 1: 1568; Pricing 1: 1=2.17, 10=1.958, 25=1.7544, 100=1.5776, 250=1.4008, 500=1.224, 750=1.1084, 1000=1.0132 (USD); Packaging: Cut Tape (CT); Features: -; Operating Temperature: -40°C ~ 125°C (TJ); Package / Case: 8-TSSOP, 8-MSOP (0.118", 3.00mm Width) Exposed Pad; ComponentLink1URL: http://www.ti.com/lit/ds/symlink/tps2051b.pdf; ComponentLink1Description: http://www.ti.com/lit/ds/symlink/tps2051b.pdf; My_Descript: TPS2042BDGNR
footprint MSOP8-PAD
pins: 1 GND (power), 2 IN (power), 3 ENA#, 4 ENB#, 5 OCB#, 6 OUTB, 7 OUTA, 8 OCA#, 9 PAD

## TPS51125
designator U?
footprint qfn24p0_5d_tg
footprint qfn24p0_5d_tg
pins: 1 ENTRIP1, 2 VFB1, 3 VREF, 4 TONSEL, 5 VFB2, 6 ENTRIP2, 7 VO2, 8 VREG3, 9 VBST2, 10 DRVH2, 11 LL2, 12 DRVL2, 13 EN0, 14 SKIPSEL, 15 GND, 16 VIN, 17 VREG5, 18 VCLK, 19 DRVL1, 20 LL1, 21 DRVH1, 22 VBST1, 23 PGOOD, 24 VO1, 25 EP

## TPS51125RGETG4
designator U?
Switching Controllers Dual-Synch Step- Down Cntrlr; Manufacturer: Texas Instruments; Input Voltage: 5.5 V to 28 V; Number of Outputs: 2; Output Current: 20 A; Output Voltage: 2 V to 5.5 V; Switching Frequency: 325 kHz; Development Kit: TPS51125EVM; Supplier 1: Mouser; Manufacturer Part Number: TPS51125RGETG4; RoHS: RoHS Compliant; Category: Switching Controllers; Stock 1: 0; Pricing 1: 250=5.05, 500=4.54, 750=4.09, 1000=3.42 (AUD); Package / Case: VQFN-24; Packaging: Reel; Series: TPS51125; Type: DC/DC Controller (External Switch); Brand: Texas Instruments; Mounting Style: SMD/SMT; Maximum Operating Temperature: + 85 C; Minimum Operating Temperature: - 40 C; Product Category: Regulators - Non-Isolated Switching DC/DC; Standard Pack Qty: 250; RoHS - Mouser: Y; Minimum Order Quantity: 250; Reeling: True; ComponentLink1URL: http://www.ti.com/litv/slus786g; ComponentLink1Description: http://www.ti.com/litv/slus786g; Supplier Part Number 1: 595-TPS51125RGETG4; My_Descript: TPS51125RGETG4
footprint VQFN-24 (Footprint not found)
pins: 1 ENTRIP1, 2 VFB1, 3 VREF, 4 TONSEL, 5 VFB2, 6 ENTRIP2, 7 VO2, 8 VREG3, 9 VBST2, 10 DRVH2, 11 LL2, 12 DRVL2, 13 EN0, 14 SKIPSEL, 15 GND, 16 VIN, 17 VREG5, 18 VCLK, 19 DRVL1, 20 LL1, 21 DRVH1, 22 VBST1, 23 PGOOD, 24 VO1, 25 EP

## TQ2SA-3V
designator U?
Manufacturer: Panasonic Electric Works; Relay Type: Telecom; Coil Type: Non Latching; Coil Current: 46.7mA; Coil Voltage: 3VDC; Contact Form: DPDT (2 Form C); Contact Rating (Current): 2A; Switching Voltage: 125VAC, 220VDC - Max; Turn On Voltage (Max): 2.25 VDC; Turn Off Voltage (Min): 0.3 VDC; Operate Time: 4ms; Coil Power: 140 mW; Coil Resistance: 64.3 Ohms; Supplier 1: Digi-Key; Manufacturer Part Number: TQ2SA-3V; RoHS: RoHS Compliant; Category: Relays; Stock 1: 2074; Pricing 1: 1=3.75, 10=3.596, 25=3.4424, 50=3.06, 100=2.601 (USD); Packaging: Tube; Release Time: 4ms; Features: -; Mounting Type: Surface Mount; Termination Style: Gull Wing; Contact Material: Silver Nickel (AgNi), Gold (Au); Operating Temperature: -40°C ~ 85°C; ComponentLink1URL: http://www3.panasonic.biz/ac/e_download/control/relay/signal/catalog/mech_eng_tq.pdf; ComponentLink1Description: http://www3.panasonic.biz/ac/e_download/control/relay/signal/catalog/mech_eng_tq.pdf; Supplier Part Number 1: 255-1228-5-ND; My_Descript: TQ2SA-3V
footprint TQ2SA-3V
pins: 1 V+, 2, 3, 4, 5, 6, 7, 8, 9, 10 V-

## TRC0013NL
designator U?
Supplier 1: Mouser; Supplier Part Number 1: N/A
pins: 1 RD+, 2 RD-, 3 CT3, 4 NC4, 5 NC3, 6 CT1, 7 TD+, 8 TD-, 9 TX-, 10 TX+, 11 CT2, 12 NC2, 13 NC1, 14 CT4, 15 RX-, 16 RX+

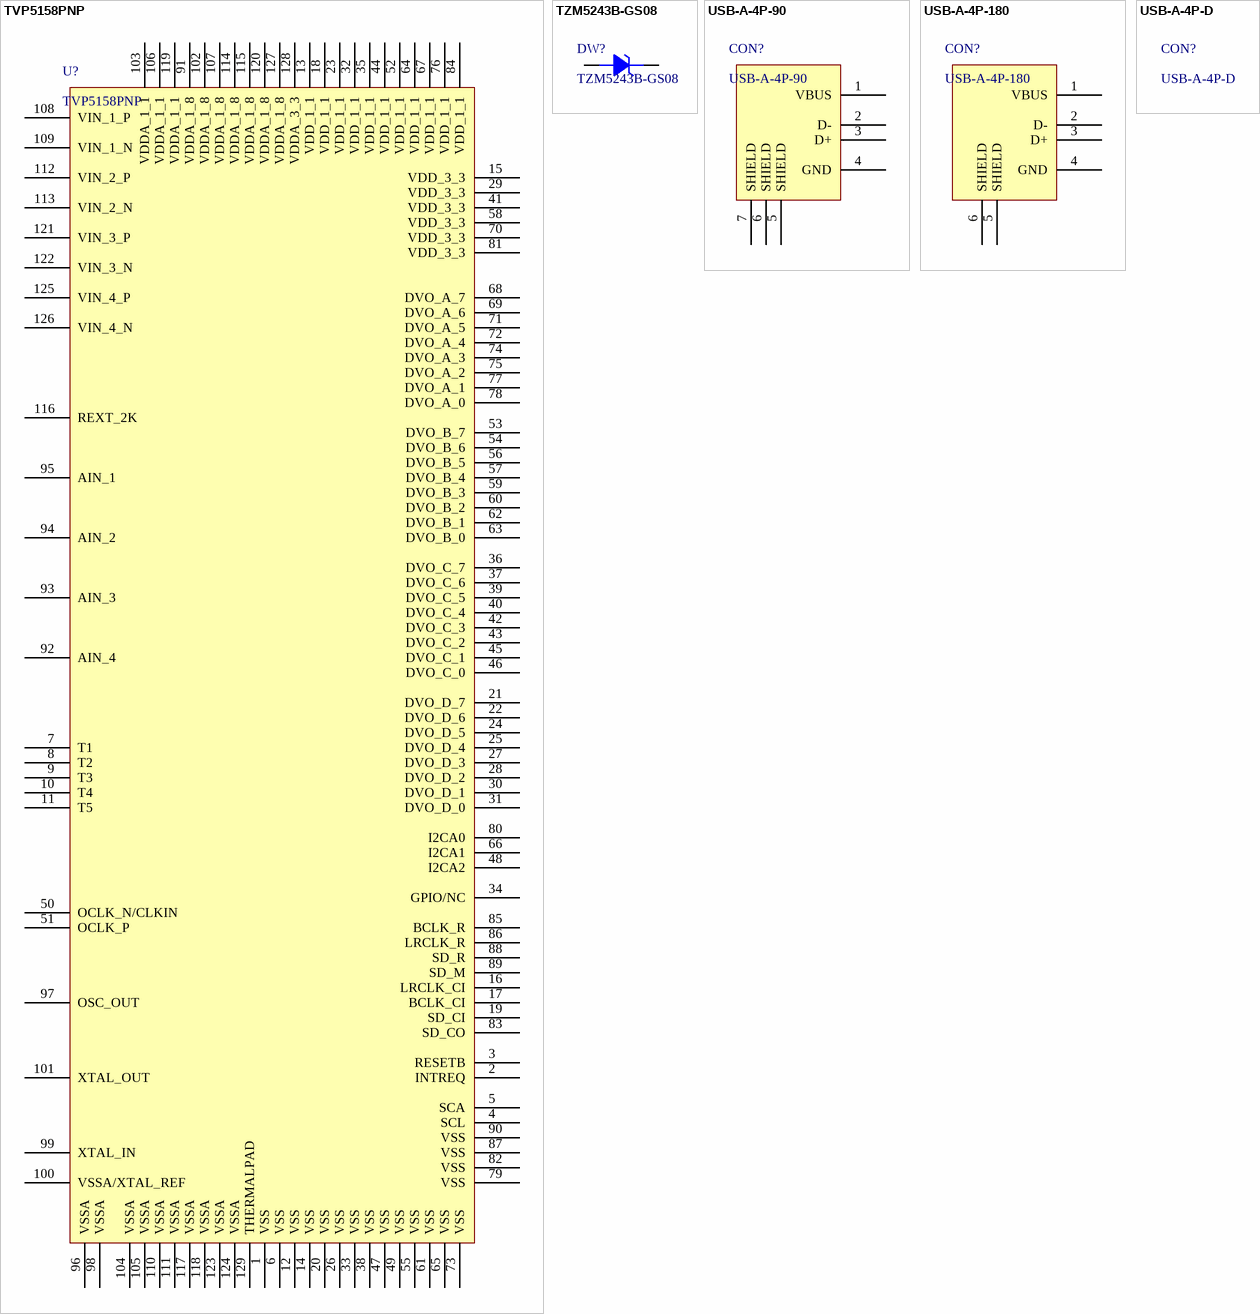
[diagram p13: symbols TVP5158PNP to USB-A-4P-D]

## TVP5158PNP
designator U?
Video ICs 4Ch NTSC/PAL Video Decoder; Manufacturer: Texas Instruments; Number of Channels: 4 Channel; Development Kit: TVP5158EVM; Operating Supply Voltage: 3.3 V; Product Status: Not Recommended for New Designs; Supplier 1: Mouser; Manufacturer Part Number: TVP5158PNP; RoHS: RoHS Compliant; Category: Video ICs; Stock 1: 100; Pricing 1: 1=24.89, 10=22.65, 25=20.97, 50=20.05, 100=19.25, 250=17.55, 500=15.62, 1000=15.05 (AUD); Package / Case: HTQFP-128; Packaging: Tube; Series: TVP5158; Brand: Texas Instruments; Mounting Style: SMD/SMT; Maximum Operating Temperature: + 70 C; Minimum Operating Temperature: 0 C; Product Category: Video Encoders/Decoders; Standard Pack Qty: 90; RoHS - Mouser: Y; Minimum Order Quantity: 1; Reeling: False; ComponentLink1URL: http://www.mouser.com/ds/2/405/sles243g-261045.pdf; ComponentLink1Description: http://www.mouser.com/ds/2/405/sles243g-261045.pdf; Supplier Part Number 1: 595-TVP5158PNP; My_Descript: TVP5158PNP
footprint S-PQFP-G128
pins: 1 VSS, 2 INTREQ, 3 RESETB, 4 SCL, 5 SCA, 6 VSS, 7 T1, 8 T2, 9 T3, 10 T4, 11 T5, 12 VSS, 13 VDD_1_1, 14 VSS, 15 VDD_3_3, 16 LRCLK_CI, 17 BCLK_CI, 18 VDD_1_1, 19 SD_CI, 20 VSS, 21 DVO_D_7, 22 DVO_D_6, 23 VDD_1_1, 24 DVO_D_5, 25 DVO_D_4, 26 VSS, 27 DVO_D_3, 28 DVO_D_2, 29 VDD_3_3, 30 DVO_D_1, 31 DVO_D_0, 32 VDD_1_1, 33 VSS, 34 GPIO/NC, 35 VDD_1_1, 36 DVO_C_7, 37 DVO_C_6, 38 VSS, 39 DVO_C_5, 40 DVO_C_4, 41 VDD_3_3, 42 DVO_C_3, 43 DVO_C_2, 44 VDD_1_1, 45 DVO_C_1, 46 DVO_C_0, 47 VSS, 48 I2CA2, 49 VSS, 50 OCLK_N/CLKIN, 51 OCLK_P, 52 VDD_1_1, 53 DVO_B_7, 54 DVO_B_6, 55 VSS, 56 DVO_B_5, 57 DVO_B_4, 58 VDD_3_3, 59 DVO_B_3, 60 DVO_B_2, 61 VSS, 62 DVO_B_1, 63 DVO_B_0, 64 VDD_1_1, 65 VSS, 66 I2CA1, 67 VDD_1_1, 68 DVO_A_7, 69 DVO_A_6, 70 VDD_3_3, 71 DVO_A_5, 72 DVO_A_4, 73 VSS, 74 DVO_A_3, 75 DVO_A_2, 76 VDD_1_1, 77 DVO_A_1, 78 DVO_A_0, 79 VSS, 80 I2CA0, 81 VDD_3_3, 82 VSS, 83 SD_CO, 84 VDD_1_1, 85 BCLK_R, 86 LRCLK_R, 87 VSS, 88 SD_R, 89 SD_M, 90 VSS, 91 VDDA_1_8, 92 AIN_4, 93 AIN_3, 94 AIN_2, 95 AIN_1, 96 VSSA, 97 OSC_OUT, 98 VSSA, 99 XTAL_IN, 100 VSSA/XTAL_REF, 101 XTAL_OUT, 102 VDDA_1_8, 103 VDDA_1_1, 104 VSSA, 105 VSSA, 106 VDDA_1_1, 107 VDDA_1_8, 108 VIN_1_P, 109 VIN_1_N, 110 VSSA, 111 VSSA, 112 VIN_2_P, 113 VIN_2_N, 114 VDDA_1_8, 115 VDDA_1_8, 116 REXT_2K, 117 VSSA, 118 VSSA, 119 VDDA_1_1, 120 VDDA_1_8, 121 VIN_3_P, 122 VIN_3_N, 123 VSSA, 124 VSSA, 125 VIN_4_P, 126 VIN_4_N, 127 VDDA_1_8, 128 VDDA_3_3, 129 THERMALPAD

## TZM5243B-GS08
designator DW?
Zener Diodes 13 Volt 0.5 Watt; Manufacturer: Vishay Semiconductors; Configuration: Single; Power Dissipation: 500 mW; Zener Current: 200 mA; Maximum Reverse Leakage Current: 500 nA; Maximum Zener Impedance: 13 Ohms; Voltage Temperature Coefficient: 0.079 %/K; Voltage Tolerance: 5 %; Zener Voltage: 13 V; Supplier 1: Mouser; Manufacturer Part Number: TZM5243B-GS08; RoHS: RoHS Compliant By Exemption; Category: Zener Diodes; Stock 1: 9843; Pricing 1: 1=0.135, 10=0.043, 50=0.041, 100=0.039, 200=0.036, 500=0.035, 1000=0.034, 2500=0.031, 5000=0.030 (AUD); Package / Case: SOD-80; Packaging: Reel; Brand: Vishay Semiconductors; Mounting Style: SMD/SMT; Maximum Operating Temperature: + 175 C; Minimum Operating Temperature: - 65 C; Product Category: Zener Diodes; Standard Pack Qty: 2500; RoHS - Mouser: E; Minimum Order Quantity: 1; Reeling: True; ComponentLink1URL: http://www.mouser.com/ds/2/427/tzm5221b-103146.pdf; ComponentLink1Description: http://www.mouser.com/ds/2/427/tzm5221b-103146.pdf; Supplier Part Number 1: 78-TZM5243B; My_Descript: TZM5243B-GS08
footprint D1206
pins: A ANODE, C CATHODE

## USB-A-4P-90
designator CON?
USB Connectors 4P ST SINGLE STACK TYPE A RECEPTACLE; Manufacturer: FCI; Manufacturer Part Number: 73725-1110BLF; Connector Type: USB Type A Receptacle, Upright; Gender: Female; Mounting Angle: Right; Number of Contacts: 4; Number of Ports: 1; Supplier 1: Mouser; RoHS: RoHS Compliant; Category: USB Connectors; Stock 1: 1360; Pricing 1: 1=1.17, 10=1.01, 100=0.918, 250=0.830, 500=0.744, 1000=0.656, 2500=0.633, 5000=0.612, 10000=0.568 (AUD); Color: Black; Contact Plating: Palladium Nickel Alloy (GXT); Features: Single Stack, No Back Shield, without Sensor Contact; Packaging: Tube; Product: USB Type A Connectors; Termination Style: Solder Pin; Brand: FCI; Contact Material: Copper Alloy; Flammability Rating: UL 94 V-0; Shell Plating: Tin; Product Category: USB Connectors; Standard: USB 2.0; Standard Pack Qty: 30; RoHS - Mouser: Y; Minimum Order Quantity: 1; Reeling: False; ComponentLink1URL: http://www.fciconnect.com/fciredir.htm?partnum=73725-1110BLF; ComponentLink1Description: http://www.fciconnect.com/fciredir.htm?partnum=73725-1110BLF; Supplier Part Number 1: 649-73725-1110BLF; My_Descript: USB-A-4P-90
footprint USB-A-4P-90
pins: 1 VBUS, 2 D-, 3 D+, 4 GND, 5 SHIELD, 6 SHIELD, 7 SHIELD

## USB-A-4P-180
designator CON?
USB Connectors 4P ST SINGLE STACK TYPE A RECEPTACLE; Manufacturer: TE Connectivity; Manufacturer Part Number: 1734085-1; Description: USB Connectors USB Conn. A series double PBT.; Gender: Female; Mounting Angle: Vertical; Number of Contacts: 4; Insulator Color: Black; Number of Ports: 1; My_Descript: USB-A-4P-180; Supplier 1: Mouser; RoHS: RoHS Compliant; Category: USB Connectors; Stock 1: 2387; Pricing 1: 1=1.09, 25=1.03, 50=0.972, 100=0.918 (AUD); Color: Black; Contact Plating: Gold; Features: USB Connnector A Series, Vertical; Product: USB Type A Connectors; Termination Style: Solder Tail; Brand: TE Connectivity; Contact Material: Phosphor Bronze; Flammability Rating: UL 94 V-0; Shell Plating: Tin; Standard: USB 2.0; Standard Pack Qty: 100; RoHS - Mouser: Y; Minimum Order Quantity: 1; Reeling: False; ComponentLink1URL: http://www.te.com/catalog/pn/en/1734085-1?RQPN=1734085-1; ComponentLink1Description: http://www.te.com/catalog/pn/en/1734085-1?RQPN=1734085-1; Supplier Part Number 1: 571-1734085-1
footprint USB-A-4P-180
pins: 1 VBUS, 2 D-, 3 D+, 4 GND, 5 SHIELD, 6 SHIELD

## USB-A-4P-D
designator CON?
USB Connectors 4P USB R/A RECPT; Manufacturer: FCI; Manufacturer Part Number: 87520-1010BLF; Connector Type: USB Type A Receptacle; Gender: Female; Mounting Angle: Right; Number of Contacts: 4; Number of Ports: 1; Supplier 1: Mouser; RoHS: RoHS Compliant; Category: USB Connectors; Stock 1: 2669; Pricing 1: 1=0.891, 10=0.737, 100=0.645, 500=0.554, 1000=0.477, 2500=0.460, 5000=0.446, 10000=0.408, 25000=0.400 (AUD); Color: Black; Contact Plating: Palladium Nickel Alloy (GXT); Features: Single Stack, No Back Shield, without Sensor Contact; Packaging: Tube; Product: USB Type A Connectors; Termination Style: Solder Pin; Brand: FCI; Contact Material: Copper Alloy; Flammability Rating: UL 94 V-0; Shell Plating: Tin; Product Category: USB Connectors; Standard: USB 2.0; Standard Pack Qty: 42; RoHS - Mouser: Y; Minimum Order Quantity: 1; Reeling: False; ComponentLink1URL: http://www.mouser.com/ds/2/154/87520-223730.pdf; ComponentLink1Description: http://www.mouser.com/ds/2/154/87520-223730.pdf; Supplier Part Number 1: 649-87520-1010BLF; My_Descript: USB-A-4P-D

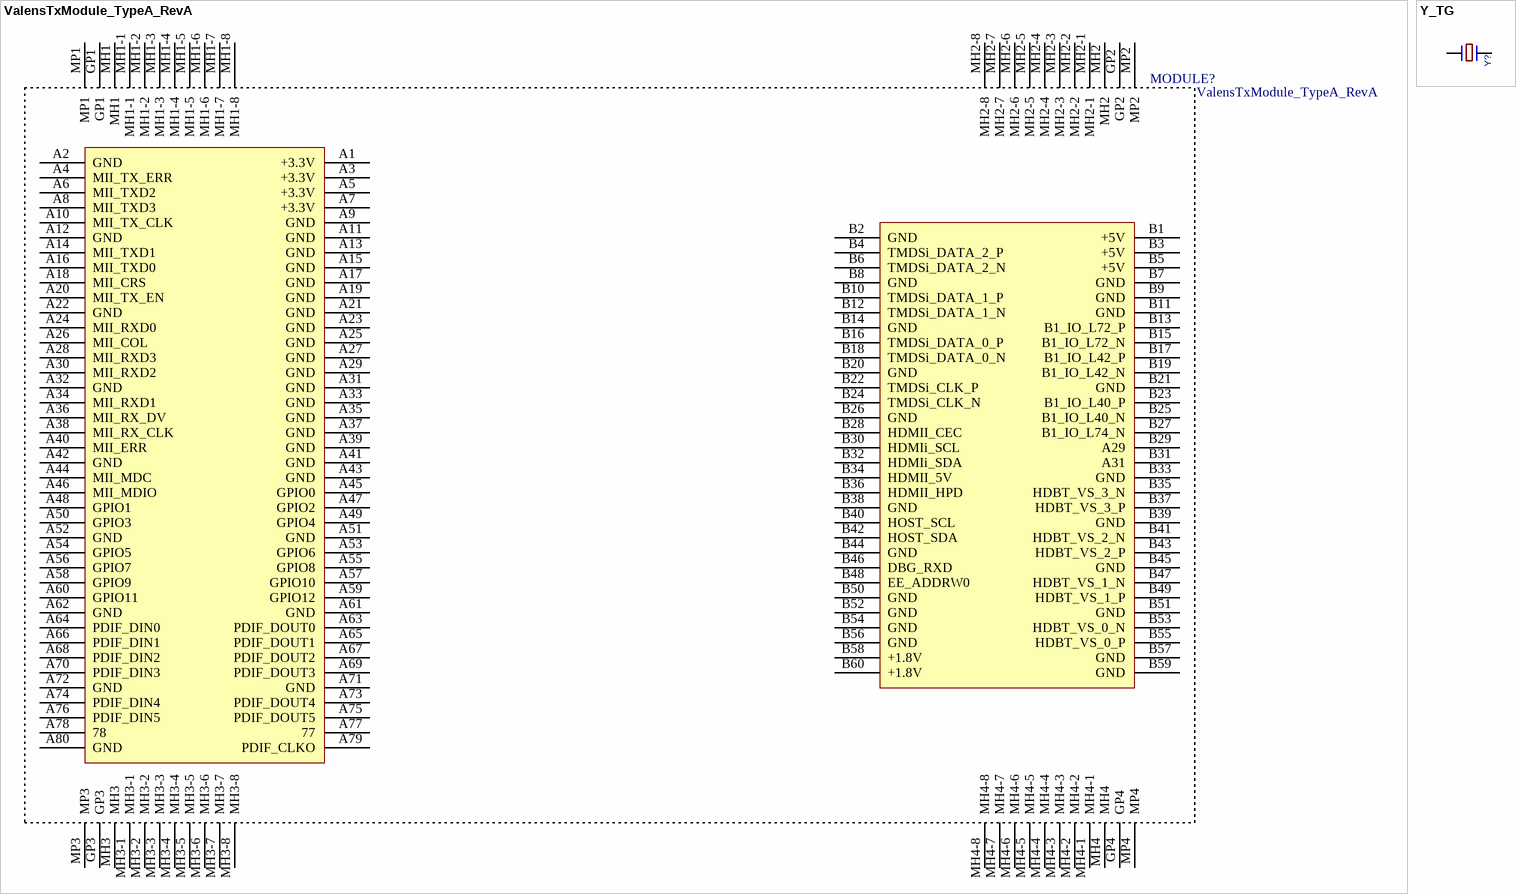
[diagram p14: symbols ValensTxModule_TypeA_RevA to Y_TG]

## ValensTxModule_TypeA_RevA
designator MODULE?
footprint ValensTxModule_TypeA_RevA (Footprint not found)
pins: A1 +3.3V, A2 GND, A3 +3.3V, A4 MII_TX_ERR, A5 +3.3V, A6 MII_TXD2, A7 +3.3V, A8 MII_TXD3, A9 GND, A10 MII_TX_CLK, A11 GND, A12 GND, A13 GND, A14 MII_TXD1, A15 GND, A16 MII_TXD0, A17 GND, A18 MII_CRS, A19 GND, A20 MII_TX_EN, A21 GND, A22 GND, A23 GND, A24 MII_RXD0, A25 GND, A26 MII_COL, A27 GND, A28 MII_RXD3, A29 GND, A30 MII_RXD2, A31 GND, A32 GND, A33 GND, A34 MII_RXD1, A35 GND, A36 MII_RX_DV, A37 GND, A38 MII_RX_CLK, A39 GND, A40 MII_ERR, A41 GND, A42 GND, A43 GND, A44 MII_MDC, A45 GPIO0, A46 MII_MDIO, A47 GPIO2, A48 GPIO1, A49 GPIO4, A50 GPIO3, A51 GND, A52 GND, A53 GPIO6, A54 GPIO5, A55 GPIO8, A56 GPIO7, A57 GPIO10, A58 GPIO9, A59 GPIO12, A60 GPIO11, A61 GND, A62 GND, A63 PDIF_DOUT0, A64 PDIF_DIN0, A65 PDIF_DOUT1, A66 PDIF_DIN1, A67 PDIF_DOUT2, A68 PDIF_DIN2, A69 PDIF_DOUT3, A70 PDIF_DIN3, A71 GND, A72 GND, A73 PDIF_DOUT4, A74 PDIF_DIN4, A75 PDIF_DOUT5, A76 PDIF_DIN5, A77 77, A78 78, A79 PDIF_CLKO, A80 GND, B1 +5V, B2 GND, B3 +5V, B4 TMDSi_DATA_2_P, B5 +5V, B6 TMDSi_DATA_2_N, B7 GND, B8 GND, B9 GND, B10 TMDSi_DATA_1_P, B11 GND, B12 TMDSi_DATA_1_N, B13 B1_IO_L72_P, B14 GND, B15 B1_IO_L72_N, B16 TMDSi_DATA_0_P, B17 B1_IO_L42_P, B18 TMDSi_DATA_0_N, B19 B1_IO_L42_N, B20 GND, B21 GND, B22 TMDSi_CLK_P, B23 B1_IO_L40_P, B24 TMDSi_CLK_N, B25 B1_IO_L40_N, B26 GND, B27 B1_IO_L74_N, B28 HDMII_CEC, B29 A29, B30 HDMIi_SCL, B31 A31, B32 HDMIi_SDA, B33 GND, B34 HDMII_5V, B35 HDBT_VS_3_N, B36 HDMII_HPD, B37 HDBT_VS_3_P, B38 GND, B39 GND, B40 HOST_SCL, B41 HDBT_VS_2_N, B42 HOST_SDA, B43 HDBT_VS_2_P, B44 GND, B45 GND, B46 DBG_RXD, B47 HDBT_VS_1_N, B48 EE_ADDRW0, B49 HDBT_VS_1_P, B50 GND, B51 GND, B52 GND, B53 HDBT_VS_0_N, B54 GND, B55 HDBT_VS_0_P, B56 GND, B57 GND, B58 +1.8V, B59 GND, B60 +1.8V, GP1, GP2, GP3, GP4, MH1, MH1-1, MH1-2, MH1-3, MH1-4, MH1-5, MH1-6, MH1-7, MH1-8, MH2, MH2-1, MH2-2, MH2-3, MH2-4, MH2-5, MH2-6, MH2-7, MH2-8, MH3, MH3-1, MH3-2, MH3-3, MH3-4, MH3-5, MH3-6, MH3-7, MH3-8, MH4, MH4-1, MH4-2, MH4-3, MH4-4, MH4-5, MH4-6, MH4-7, MH4-8, MP1, MP2, MP3, MP4

## Y_TG
designator Y?
REUSE_ANNOTATE: TRUE; Date: 12302002
footprint x_5032_tg
pins: 1, 2